# EAGLE library part LSM6DS3TR-C (library jacdac)
LSM6DS3TR-C gyroscope and accelerometer JLC967633 Datasheet <http://www.st.com/resource/en/datasheet/lsm6ds3tr-c.pdf>
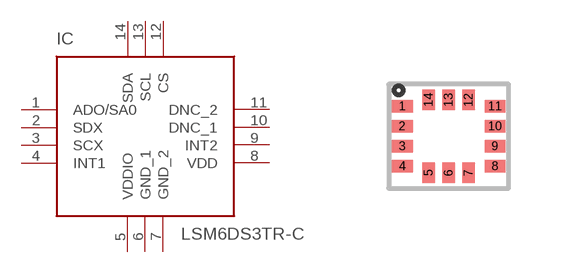
[diagram p0: symbol with the pads of LGA-14-2.5_3; footprint LGA-14-2.5_3]

Designator prefix IC

## LSM6DS3TR-C  [LGA-14-2.5_3]
1  ADO/SA0
2  SDX
3  SCX
4  INT1
5  VDDIO
6  GND_1
7  GND_2
8  VDD
9  INT2
10  DNC_1
11  DNC_2
12  CS
13  SCL
14  SDA

## Footprint LGA-14-2.5_3 (pad centres in mm)
LGA-14 2.5mm x 3.0mm
smd 0.52 x 0.32: 1 -1.16,0.75; 2 -1.16,0.25; 3 -1.16,-0.25; 4 -1.16,-0.75; 8 1.16,-0.75; 9 1.16,-0.25; 10 1.16,0.25; 11 1.16,0.75
smd 0.32 x 0.52: 5 -0.5,-0.912; 6 0,-0.912; 7 0.5,-0.912; 12 0.5,0.912; 13 0,0.912; 14 -0.5,0.912